# EAGLE library part BLUENRG-MS (library OAlib)
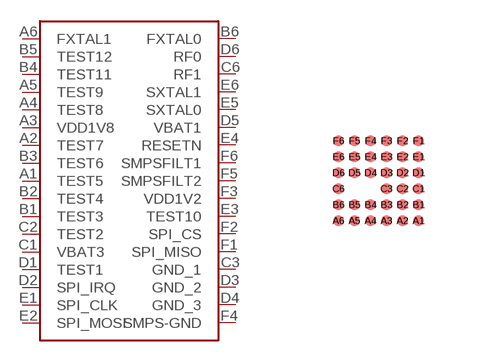
[diagram p4: symbol with the pads of WLCSP34; footprint WLCSP34]

Designator prefix U

## BLUENRG-MS  [WLCSP34]
A1  TEST5  pwr
A2  TEST7  pwr
A3  VDD1V8  pwr
A4  TEST8  pwr
A5  TEST9  pwr
A6  FXTAL1  pwr
B1  TEST3  pwr
B2  TEST4  pwr
B3  TEST6  pwr
B4  TEST11  pwr
B5  TEST12  pwr
B6  FXTAL0  pwr
C1  VBAT3  pwr
C2  TEST2  pwr
C3  GND_1  pwr
C6  RF1  pwr
D1  TEST1  pwr
D2  SPI_IRQ  pwr
D3  GND_2  pwr
D4  GND_3  pwr
D5  VBAT1  pwr
D6  RF0  pwr
E1  SPI_CLK  pwr
E2  SPI_MOSI  pwr
E3  TEST10  pwr
E4  RESETN  pwr
E5  SXTAL0  pwr
E6  SXTAL1  pwr
F1  SPI_MISO  pwr
F2  SPI_CS  pwr
F3  VDD1V2  pwr
F4  SMPS-GND  pwr
F5  SMPSFILT2  pwr
F6  SMPSFILT1  pwr

## Footprint WLCSP34 (pad centres in mm)
smd 0.27 x 0.27: A1 1,-1; A2 0.6,-1; A3 0.2,-1; A4 -0.2,-1; A5 -0.6,-1; A6 -1,-1; B1 1,-0.6; B2 0.6,-0.6; B3 0.2,-0.6; B4 -0.2,-0.6; B5 -0.6,-0.6; B6 -1,-0.6; C1 1,-0.2; C2 0.6,-0.2; C3 0.2,-0.2; C6 -1,-0.2; D1 1,0.2; D2 0.6,0.2; D3 0.2,0.2; D4 -0.2,0.2; D5 -0.6,0.2; D6 -1,0.2; E1 1,0.6; E2 0.6,0.6; E3 0.2,0.6; E4 -0.2,0.6; E5 -0.6,0.6; E6 -1,0.6; F1 1,1; F2 0.6,1; F3 0.2,1; F4 -0.2,1; F5 -0.6,1; F6 -1,1